# Altium schematic symbol library Motor_Drive.SCHLIB: 26 symbols
Pins are listed as number, name and electrical type; pins without a type are passive.

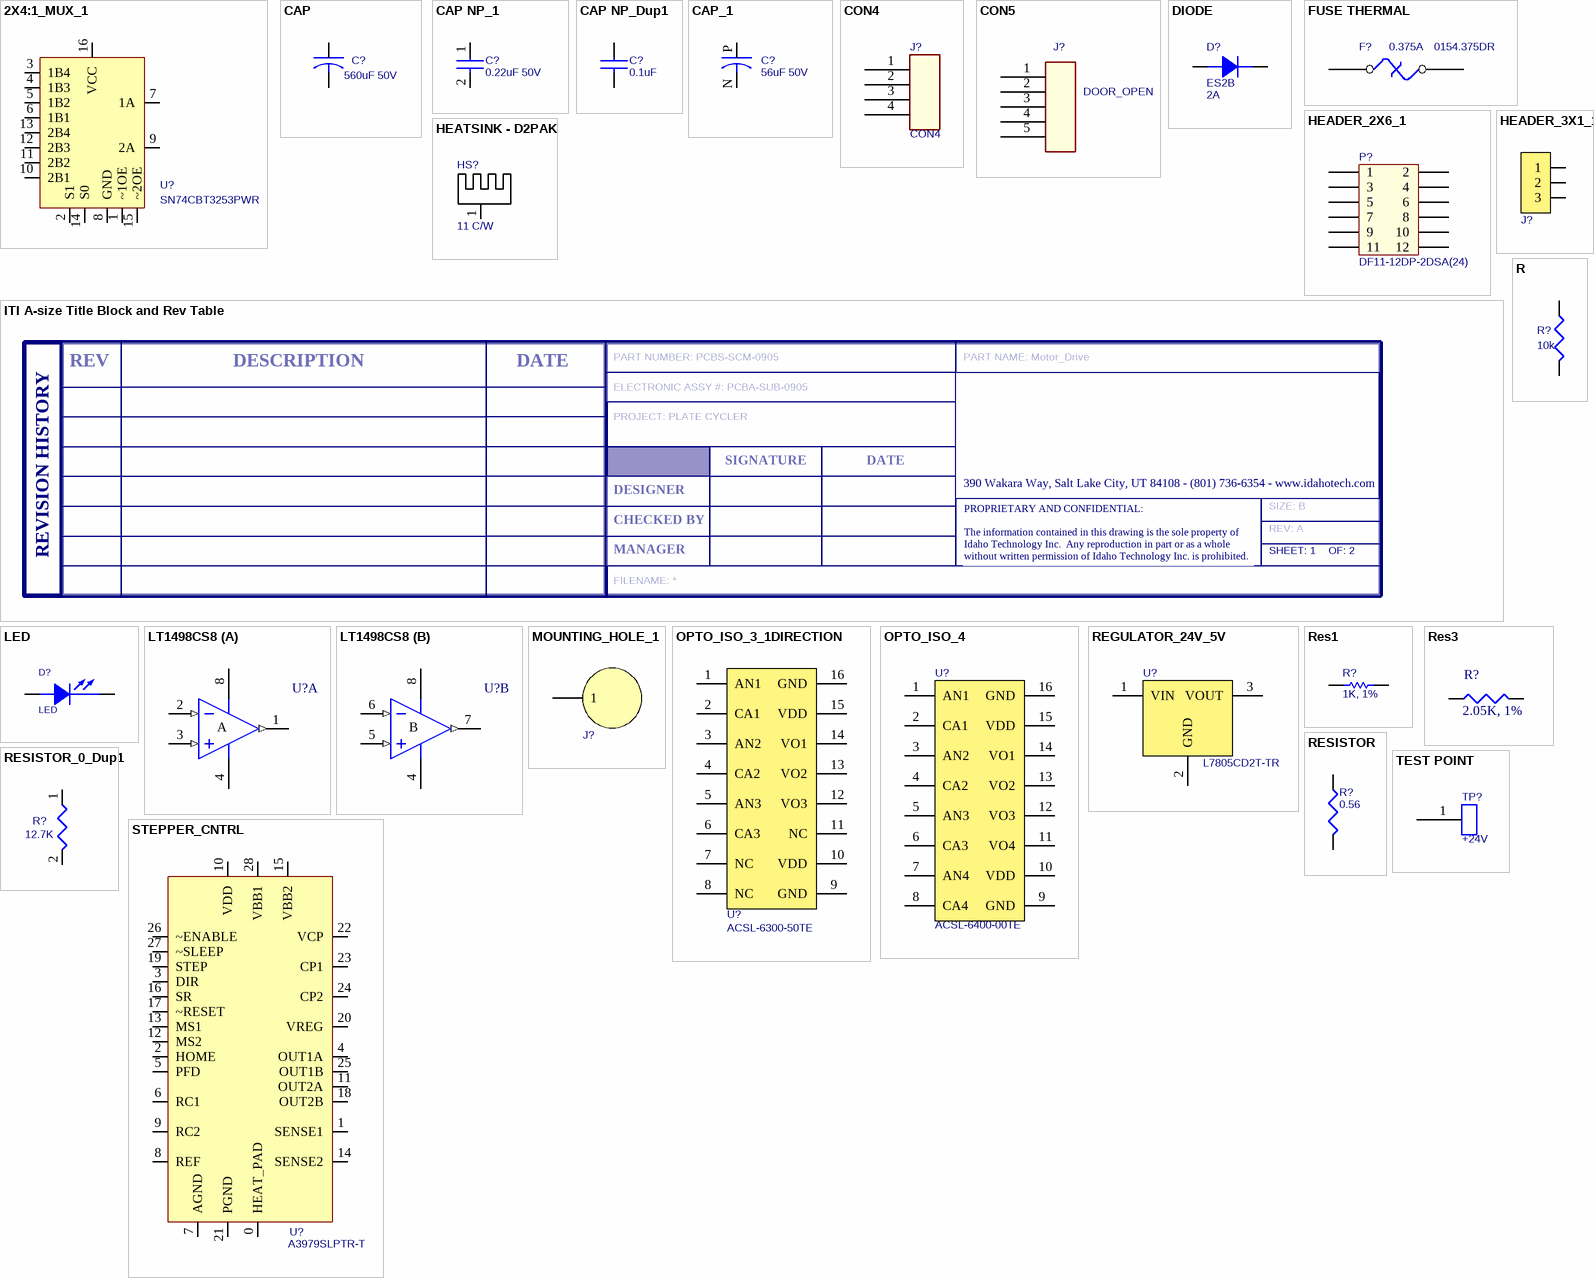
[diagram p0: symbols 2X4:1_MUX_1 to TEST POINT]

## 2X4:1_MUX_1
designator U?  Mfg P/N: SN74CBT3253PWR  (hidden comment: 2X4:1_MUX_1)
Desc: IC DUAL 1OF4 MUX/DEMUX 16TSSOP; Mfg: TEXAS INSTRUMENTS; Vendor: DIGIKEY; Vendor P/N: 296-1167-1-ND; Price: 0.64
footprint 16-TSSOP (15-TSSOP FOOTPRINT)
pins: 1 ~1OE, 2 S1, 3 1B4, 4 1B3, 5 1B2, 6 1B1, 7 1A, 8 GND, 9 2A, 10 2B1, 11 2B2, 12 2B3, 13 2B4, 14 S0, 15 ~2OE, 16 VCC

## CAP
designator C?, comment 560uF 50V
CAP 560UF 50V ELECT FC RADIAL; Manufacturer P/N: EEU-FC1H561; Manufacturer: Panasonic; Vendor P/N: P11261-ND; Vendor: Digikey
footprint ELECT FS RADIAL 90, 25mm length x 12.5mm diameter - vertical (CAP ELECT FC RADIAL, 12.5mm diameter, 25mm length, 5mm lead spacing)
pins: 1, 2

## CAP NP_1
designator C?, comment 0.22uF 50V
CAP CER .22UF 50V Y5V 0603; Manufacturer: Murata Electronics North America; Manufacturer P/N: GRM188F51H224ZA01D; Vendor P/N: 490-1569-1-ND; Vendor: Digikey
footprint SM/C_0603
footprint SM/C_0805
pins: 1, 2

## CAP NP_Dup1
designator C?, comment 0.1uF
CAP CER .10UF 50V X5R 0603; Manufacturer: Taiyo Yuden; Manufacturer P/N: UMK107B7104KA-T; Vendor: Digikey; Vendor P/N: 587-1243-1-ND
footprint SM/C_0603
pins: 1, 2

## CAP_1
designator C?, comment 56uF 50V
CAP 56UF 50V ELECT FC RADIAL; Manufactuer: PANASONIC; Manufacturer PN: EEU-FC1H560; Vendor P/N: P10322-ND; Vendor: Digikey
footprint CPCYL/D.250/LS.100/.031
pins: N, P

## CON4
designator J?
CONN HEADER 4POS .100 VERT GOLD; Manufacturer: Molex/Waldom Electronics Corp; Manufacturer P/N: 70543-0003; Vendor P/N: WM4802-ND; Vendor: Digikey
footprint MOLEX4
pins: 1, 2, 3, 4

## CON5
designator J?, comment DOOR_OPEN
CONN HEADER 5POS .100 VERT GOLD; Manufacturer: Molex; Manufacturer P/N: 70543-0004; Vendor: Digikey; Vendor P/N: WM4803-ND
footprint POLCON.100/LOCKING/5
pins: 1, 2, 3, 4, 5

## DIODE
designator D?, comment ES2B  value 2A
DIODE SUPER FAST REC 2A 100V SMB; Manufacturer: Diodes Inc.; Manufacturer P/N: ES2B-13-F; Vendor: Digikey; Vendor P/N: ES2B-FDICT-ND; Desc: DIODE SUPER FAST REC 2A 100V SMB
footprint SM/DO214AA_21
pins: 1 A, 2 K

## FUSE THERMAL
designator F?, comment 0.375A  Mfg P/N: 0154.375DR
FUSEBLOCK 0.375A; Vendor P/N: F3150CT-ND; Vendor: Digikey; Mfg: Littelfuse Inc; Desc: FUSEBLOCK W/.375A FUSE SMD FST
footprint SMD - Fuse
pins: 1, 2

## HEADER_2X6_1
designator P?  Mfg P/N: DF11-12DP-2DSA(24)  (hidden comment: HEADER_2X6_1)
Desc: CONN HEADER 12POS 2MM PCB TIN; Vendor: DIGIKEY; Vendor P/N: H10233-ND; Mfg: HIROSE; Price: 0.72
footprint HEADER_2X6_1 (HIROSE DF11 2MM PITCH)
pins: 1, 2, 3, 4, 5, 6, 7, 8, 9, 10, 11, 12

## HEADER_3X1_1
designator J?  (value not drawn)
Desc: CONN HEADER 3POS .100 VERT GOLD; Mfg: MOLEX; Mfg P/N: 70543-0002; VENDOR: DIGIKEY; Vendor P/N: WM4801-ND; Price: 1.14
footprint MOLEX3 (C-GRID)
pins: 1, 2, 3

## HEATSINK - D2PAK
designator HS?, comment 11 C/W
BOARD LEVEL HEATSINK .45" D-PAK; Vendor: DIGIKEY; Vendor P/N: HS406-ND; Mfg: Aavid Thermalloy; Mfg P/N: 7109DG; Price: 1.51
pins: 1

## ITI A-size Title Block and Rev Table
designator T??, comment SIZE: B  REV: A  PART NUMBER: PCBS-SCM-0905  PART NAME: Motor_Drive  ELECTRONIC ASSY #: PCBA-SUB-0905  PROJECT: PLATE CYCLER  SHEET: 1  OF: 2  (hidden comment: ITI Title Block, A Size)  (graphical)
ITI Title Block and Rev Table, A Size; FILENAME: *
text: REV; DESCRIPTION; DATE; SIGNATURE; 390 Wakara Way, Salt Lake City, UT 84108 - (801) 736-6354 - www.idahotech.com; DESIGNER; CHECKED BY; REVISION HISTORY; MANAGER; PROPRIETARY AND CONFIDENTIAL: / The information contained in this drawing is the sole property of / Idaho Technology Inc.  Any reproduction in part or as a whole / without written permission of Idaho Technology Inc. is prohibited.

## LED
designator D?
LED 565NM GRN DIFF 0603 SMD; Manufacturer: Lumex Opto/Components Inc; Manufacturer P/N: SML-LX0603GW-TR; Vendor: Digikey; Vendor P/N: 67-1549-1-ND
footprint SM/D_0603 (0603 Diode)
pins: 1 ANODE, 2 CATHODE

## LT1498CS8
designator U?, comment LT1498  (value not drawn)
10MHz, 6V/µs, Dual Rail-to-Rail Input and Output Precision C-Load Operational Amplifier; Manufacturer: Linear; Manufacturer P/N: LT1498CS8#PBF; Vendor: Digikey; Vendor P/N: LT1498CS8#PBF-ND; Published: 8-Jun-2000; LatestRevisionDate: 13-Apr-2006; LatestRevisionNote: IPC-7351 Footprint Added.; DatasheetVersion: 1996; PackageReference: S8; Publisher: Altium Limited; PackageDescription: 8-Pin Small Outline Integrated Circuit 1.27 mm Pitch; Code_JEDEC: MS-012-AA; Code_IPC: SOIC127P600-8; ComponentLink1Description: Manufacturer Link; ComponentLink1URL: http://www.linear.com/; ComponentLink2Description: Datasheet; ComponentLink2URL: http://www.linear.com/pc/downloadDocument.do?navId=H0,C1,C1154,C1009,C1021,P1533,D1710
footprint S8_N (SOIC, 8-Leads, Body 4.9x3.9mm, Pitch 1.27mm, IPC Medium Density)
footprint S8_L (8-Pin Small Outline Integrated Circuit 1.27 mm Pitch, IPC High Density)
footprint S8_M (SOIC, 8-Leads, Body 4.9x3.9mm, Pitch 1.27mm, IPC Low Density)
3D model S8 (8-Pin Small Outline Integrated Circuit 1.27 mm Pitch)
simulation model LT1498 (SUBCKT)
pins on every part: 4 V- (power), 8 V+ (power)
part A pins: 1 OUT (out), 2 IN- (in), 3 IN+ (in)
part B pins: 5 IN+ (in), 6 IN- (in), 7 OUT (out)
part A text: A
part B text: B

## MOUNTING_HOLE_1
designator J?  (value not drawn)
footprint STANDOFF_0.128 (4/40 STANDOFF)
pins: 1

## OPTO_ISO_3_1DIRECTION
designator U?  Mfg P/N: ACSL-6300-50TE  (hidden comment: OPTO_ISO_3_1DIRECTION)
Mfg: AVAGO TECHNOLOGIES; Vendor: MOUSER ELECTRONICS; Vendor P/N: 630-ACSL-6300-50TE; Desc: IC, OPTOCOUPLER, TRIPLE, 1-DIRECTION; Price: 4.77
footprint SO-16_SMALL_OUTLINE (OPTOCOUPLER SO-16 PACKAGE)
pins: 1 AN1, 2 CA1, 3 AN2, 4 CA2, 5 AN3, 6 CA3, 7 NC, 8 NC, 9 GND, 10 VDD, 11 NC, 12 VO3, 13 VO2, 14 VO1, 15 VDD, 16 GND

## OPTO_ISO_4
designator U?  Mfg P/N: ACSL-6400-00TE  (hidden comment: OPTO_ISO_4)
Mfg: AVAGO TECHNOLOGIES; Vendor: DIGIKEY; Vendor P/N: 516-1603-5-ND; Desc: IC, OPTOCOUPLER, QUAD, 1-DIRECTION; Price: 7.00
footprint SO-16_SMALL_OUTLINE (OPTOCOUPLER SO-16 PACKAGE)
pins: 1 AN1, 2 CA1, 3 AN2, 4 CA2, 5 AN3, 6 CA3, 7 AN4, 8 CA4, 9 GND, 10 VDD, 11 VO4, 12 VO3, 13 VO2, 14 VO1, 15 VDD, 16 GND

## R
designator R?, comment 10k
RES 10K OHM 1/10W 5% 0603 SMD; Manufacturer P/N: ERJ-3GEYJ103V; Manufacturer: Panasonic; Vendor P/N: P10KGCT-ND; Vendor: Digikey
footprint SM/R_0603
pins: 1, 2

## REGULATOR_24V_5V
designator U?  Mfg P/N: L7805CD2T-TR  (hidden comment: REGULATOR_24V_5V)
Desc: IC REGULATOR POS 5V D2PAK; Vendor: DIGIKEY; Vendor P/N: 497-1171-1-ND; Mfg: STMICROELECTRONICS; Price: .90
footprint D2-PAK; 2LEADS (D2-PAK; 2 Leads; Body 14.4 (inc. leads) x 10.4 mm (LxW max))
pins: 1 VIN, 2 GND, 3 VOUT

## Res1
designator R?  value 1K, 1%  (hidden comment: Res1)
Resistor; Desc: RES 1.00K OHM 1/10W 1% 0603 SMD; Mfg: PANASONIC - ECG; Mfg P/N: ERJ-3EKF1001V; Vendor: DIGIKEY; Vendor P/N: P1.00KHCT-ND; IT P/N: N/A; Price: 0.73
footprint 0603 (SMT RES/CAP/ETC)
simulation model RESISTOR (Resistor)
signal-integrity model Res
pins: 1, 2

## Res3
designator R?, comment 2.05K, 1%
RES 2.05K OHM 1/10W 1% 0603 SMD; Manufacturer: Panasonic; Manufactuer P/N: ERJ-3EKF2051V; Vendor: Digikey; Vendor P/N: P2.05KHCT-ND; Desc: RES 2.05K OHM 1/10W 1% 0603 SMD
footprint SM/R_0603
pins: 1, 2

## RESISTOR
designator R?, comment 0.56
RES .56 OHM 1W 1% 2512 SMD; Manufacturer P/N: ERJ-1TRQFR56U; Manufacturer: Panasonic; Vendor P/N: PT.56YCT-ND; Vendor: Digikey
footprint SM/R_2512
pins: 1, 2

## RESISTOR_0_Dup1
designator R?, comment 12.7K
RES 12.7K OHM 1/10W 1% 0603 SMD; Manufacturer P/N: ERJ-3EKF1272V; Manufacturer: Panasonic; Vendor P/N: P12.7KHCT-ND; Vendor: Digikey
footprint SM/R_0603
pins: 1, 2

## STEPPER_CNTRL
designator U?  Mfg P/N: A3979SLPTR-T  (hidden comment: STEPPER_CNTRL)
Vendor P/N: 620-1148-1-ND; Vendor: DIGIKEY; Mfg: ALLEGRO; Desc: IC DRIVER MICROSTEPPING 28-TSSOP
footprint 28-TSSOP_W_HEATPAD (28-TSSOP FOOTPRINT)
pins: 0 HEAT_PAD, 1 SENSE1, 2 HOME, 3 DIR, 4 OUT1A, 5 PFD, 6 RC1, 7 AGND, 8 REF, 9 RC2, 10 VDD, 11 OUT2A, 12 MS2, 13 MS1, 14 SENSE2, 15 VBB2, 16 SR, 17 ~RESET, 18 OUT2B, 19 STEP, 20 VREG, 21 PGND, 22 VCP, 23 CP1, 24 CP2, 25 OUT1B, 26 ~ENABLE, 27 ~SLEEP, 28 VBB1

## TEST POINT
designator TP?, comment +24V
TEST POINT PC MINI .040"D RED; Vendor P/N: 5000K-ND; Mfg P/N: 5000; Mfg: KEYSTONE ELECTRONICS; Vendor: DIGIEKY; Desc: TEST POINT PC MINI .040"D RED
footprint TEST_POINT_1 (TEST POINT, PC, MINI, 0.040" MTG HOLE)
pins: 1